# EAGLE library part GR-10 (library SparkFun-paranoidstudio)
GR-10 GPS Receiver Module Proto layout and schematic for GR-10 GPS receiver. Spark Fun Electronics SKU : GPS-08291
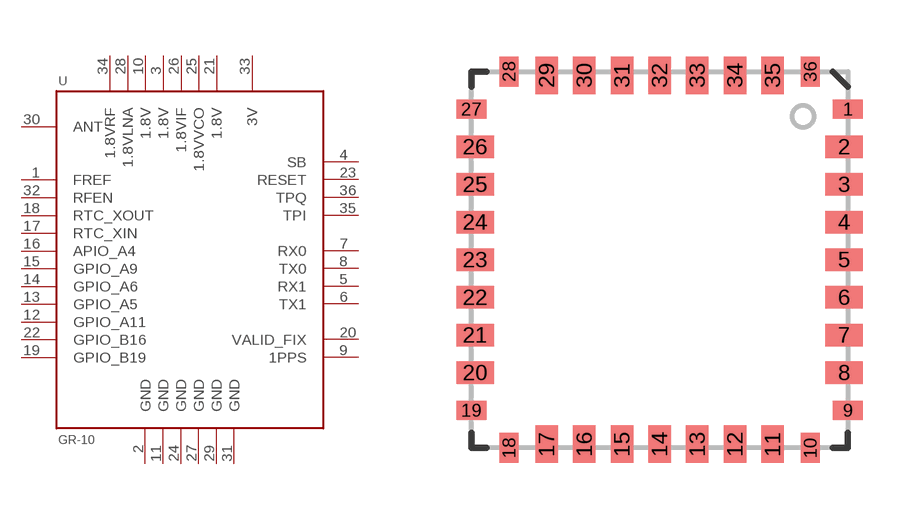
[diagram p88: symbol with the pads of GR-10; footprint GR-10]

Designator prefix -

## GR-10SMD  [GR-10]
1  FREF
2  GND  pwr
3  1.8V  pwr
4  SB  in
5  RX1  in
6  TX1  out
7  RX0  in
8  TX0  out
9  1PPS  out
10  1.8V  pwr
11  GND  pwr
12  GPIO_A11
13  GPIO_A5
14  GPIO_A6
15  GPIO_A9
16  APIO_A4
17  RTC_XIN
18  RTC_XOUT
19  GPIO_B19
20  VALID_FIX  out
21  1.8V  pwr
22  GPIO_B16
23  RESET  in
24  GND  pwr
25  1.8VVCO  pwr
26  1.8VIF  pwr
27  GND  pwr
28  1.8VLNA  pwr
29  GND  pwr
30  ANT  in
31  GND  pwr
32  RFEN  out
33  3V  pwr
34  1.8VRF  pwr
35  TPI  in
36  TPQ  in

## Footprint GR-10 (pad centres in mm)
smd 0.8 x 0.5: 1 5,4; 9 5,-4; 19 -5,-4; 27 -5,4
smd 1 x 0.6: 2 4.9,3; 3 4.9,2; 4 4.9,1; 5 4.9,0; 6 4.9,-1; 7 4.9,-2; 8 4.9,-3; 20 -4.9,-3; 21 -4.9,-2; 22 -4.9,-1; 23 -4.9,0; 24 -4.9,1; 25 -4.9,2; 26 -4.9,3
smd 0.5 x 0.8: 10 4,-5; 18 -4,-5; 28 -4,5; 36 4,5
smd 0.6 x 1: 11 3,-4.9; 12 2,-4.9; 13 1,-4.9; 14 0,-4.9; 15 -1,-4.9; 16 -2,-4.9; 17 -3,-4.9; 29 -3,4.9; 30 -2,4.9; 31 -1,4.9; 32 0,4.9; 33 1,4.9; 34 2,4.9; 35 3,4.9